# EAGLE library part HLK-RM04 (library BaseApp)
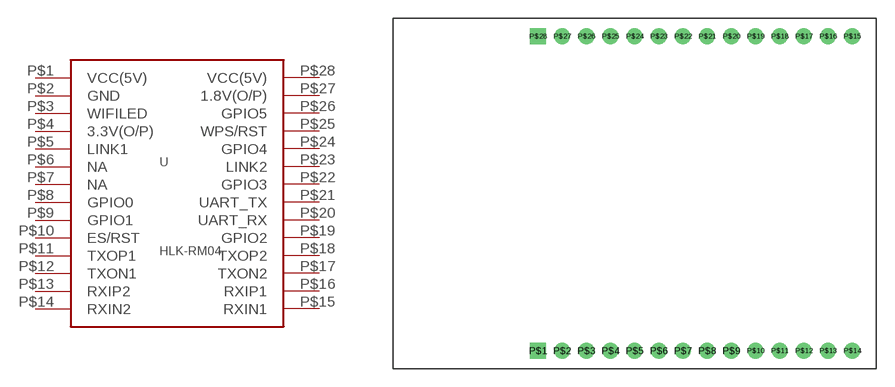
[diagram p79: symbol with the pads of HLK-RM04; footprint HLK-RM04]

Designator prefix -

## HLK-RM04  [HLK-RM04]
P$1  VCC(5V)
P$2  GND
P$3  WIFILED
P$4  3.3V(O/P)
P$5  LINK1
P$6  NA
P$7  NA
P$8  GPIO0
P$9  GPIO1
P$10  ES/RST
P$11  TXOP1
P$12  TXON1
P$13  RXIP2
P$14  RXIN2
P$15  RXIN1
P$16  RXIP1
P$17  TXON2
P$18  TXOP2
P$19  GPIO2
P$20  UART_RX
P$21  UART_TX
P$22  GPIO3
P$23  LINK2
P$24  GPIO4
P$25  WPS/RST
P$26  GPIO5
P$27  1.8V(O/P)
P$28  VCC(5V)

## Footprint HLK-RM04 (pad centres in mm)
drill 0.8 square: P$1 -8,-13; P$28 -8,13
drill 0.8: P$2 -6,-13; P$3 -4,-13; P$4 -2,-13; P$5 0,-13; P$6 2,-13; P$7 4,-13; P$8 6,-13; P$9 8,-13; P$10 10,-13; P$11 12,-13; P$12 14,-13; P$13 16,-13; P$14 18,-13; P$15 18,13; P$16 16,13; P$17 14,13; P$18 12,13; P$19 10,13; P$20 8,13; P$21 6,13; P$22 4,13; P$23 2,13; P$24 0,13; P$25 -2,13; P$26 -4,13; P$27 -6,13